# Altium schematic symbol library TG21_Slave_Device_Led_1.SCHLIB: 19 symbols
Pins are listed as number, name and electrical type; pins without a type are passive.

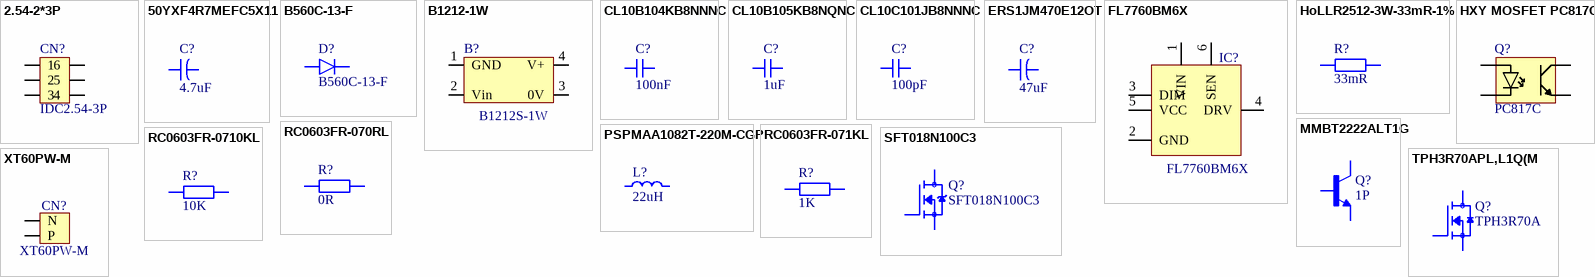
[diagram p0: symbols 2.54-2*3P to XT60PW-M]

## 2.54-2*3P
designator CN?, comment IDC2.54-3P
Connector IDC Header Through Hole, Right Angle 6 position 2.54mm; Manufacturer: BOOMELE(Boom Precision Elec); Mfr.Part #: 2.54-2*3P; LCSC Part #: C34945; Package: Through Hole,Right Angle,P=2.54mm; DigiKey Part Number: NO; ComponentLink1Description: Link; ComponentLink1URL: https://www.lcsc.com/product-detail/C34945.html; System: Connector
footprint IDC Through Hole,Right Angle,P=2.54mm, 2x3P
pins: 1, 2, 3, 4, 5, 6

## 50YXF4R7MEFC5X11
designator C?, comment 4.7uF
4.7uF 50V Aluminum Electrolytic Capacitors Through Hole,D5xL11mm 5000hrs@105℃; Manufacturer: Rubycon; Mfr.Part #: 50YXF4R7MEFC5X11; Package: Through Hole,D5xL11mm; LCSC Part #: C88759; DigiKey Part Number: 1189-1862-ND; ComponentLink1Description: Link; ComponentLink1URL: https://www.lcsc.com/product-detail/C88759.html; ComponentLink2Description: Link 1; ComponentLink2URL: https://www.digikey.com/en/products/detail/rubycon/50YXF4-7MEFC5X11/3562866?s=N4IgTCBcDaIKwAYCaANAYgFgEoHYCyAomgMJwoCM5IAugL5A
footprint PLUGIN,D5xL11mm
pins: 1, 2

## B560C-13-F
designator D?
100A 1 Independent 60V 700mV@5A 5A SMC(DO-214AB) Single Diodes RoHS; Manufacturer: DIODES; Mfr.Part #: B560C-13-F; Package: SMC(DO-214AB); LCSC Part #: C85100; DigiKey Part Number: NO; ComponentLink1Description: Link; ComponentLink1URL: https://www.lcsc.com/product-detail/C85100.html?s_z=n_C85100; ComponentLink2Description: Link 1; ComponentLink2URL: https://www.digikey.com/en/products/detail/diodes-incorporated/B560C-13-F/768773
footprint SMC
pins: 1 A, 2 K

## B1212-1W
designator B?, comment B1212S-1W
Isolated Module DC DC Converter Buck 1 Output 12V 84mA 10.8V~13.2V Input; Manufacturer: RLT; Key Attributes: DC-DC modular power supply/1000V isolation, 1W; Mfr. Part #: B1212S-1W; LCSC Part #: C512042; Package: SIP,11.6x6mm; Link: https://www.lcsc.com/product-detail/C512042.html?s_z=n_q_p_B1212-1W&spm=wm.ssy.bg.0.xh&lcsc_vid=Q1VfX1ReRFFaUFJSRgIIUV0CFFgIBFJfT1hdVlwEEVkxVlNRT1RZVlVRTlFWUTsOAxUeFF5JWBYZEEoKFBINSQcJGk4NBhADEA4cHktXRFZWSQwSGg0%3D
footprint SIP-4
pins: 1 GND, 2 Vin, 3 0V, 4 V+

## CL10B104KB8NNNC
designator C?, comment 100nF
100nF ±10% 50V Ceramic Capacitor X7R 0603; Manufacturer: Samsung Electro-Mechanics; Mfr.Part #: CL10B104KB8NNNC; Package: 0603; LCSC Part #: C1591; DigiKey Part Number: 1276-1000-2-ND; ComponentLink1Description: Link; ComponentLink1URL: https://www.lcsc.com/product-detail/C1591.html?s_z=n_CL10B104KB8NNC; ComponentLink2Description: Link 1; ComponentLink2URL: https://www.digikey.com/en/products/detail/samsung-electro-mechanics/CL10B104KB8NNNC/3886658?s=N4IgTCBcDaIMIBkCMAGAQqgLAaTQDgDki4QBdAXyA
footprint CAP-0603
footprint CAP-0603-3
pins: 1, 2

## CL10B105KB8NQNC
designator C?, comment 1uF
1uF ±10% 50V Ceramic Capacitor X7R 0603; Manufacturer: Samsung Electro-Mechanics; Mfr.Part #: CL10B105KB8NQNC; Package: 0603; LCSC Part #: C5199872; DigiKey Part Number: NO; ComponentLink1Description: Link; ComponentLink1URL: https://www.lcsc.com/product-detail/C5199872.html; ComponentLink2Description: Link 1
footprint CAP-0603
pins: 1, 2

## CL10C101JB8NNNC
designator C?, comment 100pF
100pF ±5% 50V Ceramic Capacitor C0G 0603; Manufacturer: Samsung Electro-Mechanics; Mfr.Part #: CL10C101JB8NNNC; Package: 0603; LCSC Part #: C14858; DigiKey Part Number: 1276-1008-2-ND; ComponentLink1Description: Link; ComponentLink1URL: https://www.lcsc.com/product-detail/C14858.html?s_z=n_CL10C101JBNNNC; ComponentLink2Description: Link 1; ComponentLink2URL: https://www.digikey.com/en/products/detail/samsung-electro-mechanics/CL10C101JB8NNNC/3886666?s=N4IgTCBcDaIMIBkCMAGOqkCkBCAOAcoXCALoC%2BQA
footprint CAP-0603
pins: 1, 2

## ERS1JM470E12OT
designator C?, comment 47uF
47uF 63V Aluminum Electrolytic Capacitors Through Hole,D6.3xL12mm 5000hrs@105℃; Manufacturer: AISHI; Mfr.Part #: ERS1JM470E12OT; Package: Through Hole,D6.3xL12mm; LCSC Part #: C106674; DigiKey Part Number: NO; ComponentLink1Description: Link; ComponentLink1URL: https://www.lcsc.com/product-detail/C106674.html?s_z=n_C106674; ComponentLink2Description: Link 1
footprint PLUGIN,D6.3xL12mm
footprint PLUGIN,D6.3xL12mm-SIDE
pins: 1, 2

## FL7760BM6X
designator IC?
High-Side Sensing Constant Current Buck Controller for High Switching Frequency LED Driver; Manufacturer: onsemi; Mfr.Part #: FL7760BM6X; Package: SOT-23-6; LCSC Part #: C367388; DigiKey Part Number: FL7760BM6XOSTR-ND; ComponentLink1Description: Link; ComponentLink1URL: https://www.lcsc.com/product-detail/C367388.html?s_z=n_FL7760&spm=wm.ssy.bg.0.xh&lcsc_vid=QVhYA1deElkMBVEAQVVWVAECEVVXUAcCTgNYUQVSEVAxVlNRQ1hYVFBfTlhcXzsOAxUeFF5JWBYZEEoKFBINSQcJGk4eFQsCAgIaSgADAwAHC0slRlleUFNRQlhADxALGw%3D%3D; ComponentLink2Description: Link 1; ComponentLink2URL: https://www.digikey.com/en/products/detail/onsemi/FL7760BM6X/7804375?s=N4IgTCBcDaIGIBkDsSBsAGAQgWVQDRAF0BfIA
footprint SOT23-6
pins: 1 VIN, 2 GND, 3 DIM, 4 DRV, 5 VCC, 6 SEN

## HoLLR2512-3W-33mR-1%
designator R?, comment 33mR
33mΩ 3W Current Sense Resistor ±1% ±50ppm/℃ 2512 Chip Resistor - Surface Mount RoHS; Manufacturer: Milliohm; Mfr.Part #: HoLLR2512-3W-33mR-1%; Package: 2512; LCSC Part #: C2985721; DigiKey Part Number: NO; ComponentLink1Description: Link; ComponentLink1URL: https://www.lcsc.com/product-detail/C2985721.html?spm=wm.fly.bg.0.xh&lcsc_vid=EQVeAlBQE1lfUQdeRVANVgZXElUKUAUCRwdWVVRWQVUxVlNRQ1hbUlRURFJdVDtW; ComponentLink2Description: Link 1
footprint RES-2512
pins: 1, 2

## HXY MOSFET PC817C
designator Q?, comment PC817C
Phototransistor Output 5kVrms 1 Channel SMD-4P; Manufacturer: HXY MOSFET; Mfr.Part #: PC817C; LCSC Part #: C5451663; Package: SMD-4P; DigiKey Part Number: NO; ComponentLink1Description: Link; ComponentLink1URL: https://www.lcsc.com/product-detail/C5451663.html?s_z=n_c5451663; ComponentLink2Description: Link 1
footprint SOP-4
pins: 1 A, 2 K, 3 E, 4 C

## MMBT2222ALT1G
designator Q?, comment 1P
Bipolar (BJT) Transistor NPN 40V 600mA 225mW Surface Mount SOT-23; Manufacturer: onsemi; Mfr.Part #: MMBT2222ALT1G; LCSC Part #: C82460; Package: SOT-23; DigiKey Part Number: MMBT2222ALT1GOSTR-ND; ComponentLink1Description: Link; ComponentLink1URL: https://www.lcsc.com/product-detail/C82460.html?s_z=n_mmbt; ComponentLink2Description: Link 1; ComponentLink2URL: https://www.digikey.com/en/products/detail/onsemi/MMBT2222ALT1G/919593
footprint SOT-23
pins: 1 B, 2 E, 3 C

## PSPMAA1082T-220M-CGP
designator L?, comment 22uH
8A 22uH 35mΩ 10A Molded Inductor ±20% SMD,11x10mm Fixed Inductors RoHS; Manufacturer: PROD Tech; Mfr.Part #: PSPMAA1082T-220M-CGP; Package: SMD,11x10mm; LCSC Part #: C47149121; DigiKey Part Number: NO; ComponentLink1Description: Link; ComponentLink1URL: https://www.lcsc.com/product-detail/C47149121.html?s_z=n_C47149121; ComponentLink2Description: Link 1
footprint SMD,11x10mm
pins: 1, 2

## RC0603FR-070RL
designator R?, comment 0R
0Ω 100mW 75V Thick Film Resistor ±1% 0603 Chip Resistor - Surface Mount RoHS; Mfr.Part #: RC0603FR-070RL; Manufacturer: YAGEO; Package: 0603; LCSC Part #: C100044; DigiKey Part Number: 311-0.0HRTR-ND; ComponentLink1Description: Link; ComponentLink1URL: https://www.lcsc.com/product-detail/C100044.html?s_z=n_0R; ComponentLink2Description: Link 1; ComponentLink2URL: https://www.digikey.com/en/products/detail/yageo/RC0603FR-070RL/1304008?s=N4IgTCBcDaIEoGEAMA2JBmAYnAtEg7EnADIgC6AvkA
footprint RES-0603
pins: 1, 2

## RC0603FR-071KL
designator R?, comment 1K
100mW 1kΩ 75V Thick Film Resistor ±100ppm/℃ ±1% 0603 Chip Resistor - Surface Mount RoHS; Manufacturer: YAGEO; Mfr.Part #: RC0603FR-071KL; Package: 0603; LCSC Part #: C22548; DigiKey Part Number: 311-1.00KHRTR-ND; ComponentLink1Description: Link; ComponentLink1URL: https://www.lcsc.com/product-detail/C22548.html?s_z=n_C22548; ComponentLink2Description: Link 1; ComponentLink2URL: https://www.digikey.com/en/products/detail/yageo/RC0603FR-071KL/726843?s=N4IgTCBcDaIEoGEAMA2JBmAYnAtEg7AIwDSAMiALoC%2BQA
footprint RES-0603
pins: 1, 2

## RC0603FR-0710KL
designator R?, comment 10K
100mW 10kΩ 75V Thick Film Resistor ±100ppm/℃ ±1% 0603 Chip Resistor - Surface Mount RoHS; Manufacturer: YAGEO; Mfr.Part #: RC0603FR-0710KL; Package: 0603; LCSC Part #: C98220; DigiKey Part Number: 311-10.0KHRTR-ND; ComponentLink1Description: Link; ComponentLink1URL: https://www.lcsc.com/product-detail/C98220.html?s_z=n_C98220; ComponentLink2Description: Link 1; ComponentLink2URL: https://www.digikey.com/en/products/detail/yageo/RC0603FR-0710KL/726880?s=N4IgTCBcDaIMwEYEFoEAYB0aDSAJASgCr7IByAIiALoC%2BQA
footprint RES-0603
pins: 1, 2

## SFT018N100C3
designator Q?
N-Channel 100V 320A 312W Surface Mount TOLL; Manufacturer: SCILICON; Package: TOLL; Mfr.Part #: SFT018N100C3; LCSC Part #: C42395330; DigiKey Part Number: NO; ComponentLink1Description: Link; ComponentLink1URL: https://www.lcsc.com/product-detail/C42395330.html?s_z=n_c42395330; ComponentLink2Description: Link 1
footprint TOLL
pins: 1 G, 2 S, 3 D

## TPH3R70APL,L1Q(M
designator Q?, comment TPH3R70A
N-Channel 100V 90A 170W SOP-8-Advance; Manufacturer: TOSHIBA; Mfr.Part #: TPH3R70APL,L1Q(M; Package: PDFN5060-8L; LCSC Part #: C471285; DigiKey Part Number: 264-TPH3R70APLL1QTR-ND; ComponentLink1Description: Link; ComponentLink1URL: https://www.lcsc.com/product-detail/C20605803.html?s_z=n_YJG60N04AQ; ComponentLink2Description: Link 1; ComponentLink2URL: 264-TPH3R70APLL1QTR-ND
footprint PDFN5060-8L-1.1MM
pins: 1 S, 2 S, 3 S, 4 G, 5_8 D

## XT60PW-M
designator CN?
Banana and Tip Connector Adapters RoHS; Manufacturer: Changzhou Amass Elec; Mfr.Part #: XT60PW-M; LCSC Part #: C98732; Package: XT60PW-M; DigiKey Part Number: NO; ComponentLink1Description: Link; ComponentLink1URL: https://www.lcsc.com/product-detail/C98732.html?s_z=n_XT60
footprint XT60PW-M
pins: 1 P, 2 N